# Altium schematic symbol library G6K-2.SchLib: 1 symbol
Pins are listed as number, name and electrical type; pins without a type are passive.

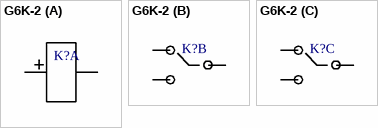
[diagram p0: symbol G6K-2]

## G6K-2
designator K?
part A pins: 1 +, 8 -
part B pins: 2  , 3  , 4  
part C pins: 5  , 6  , 7  